# EAGLE library part 24LC (library Microchip-24LCxxx)
IC, I2C™ Serial EEPROM
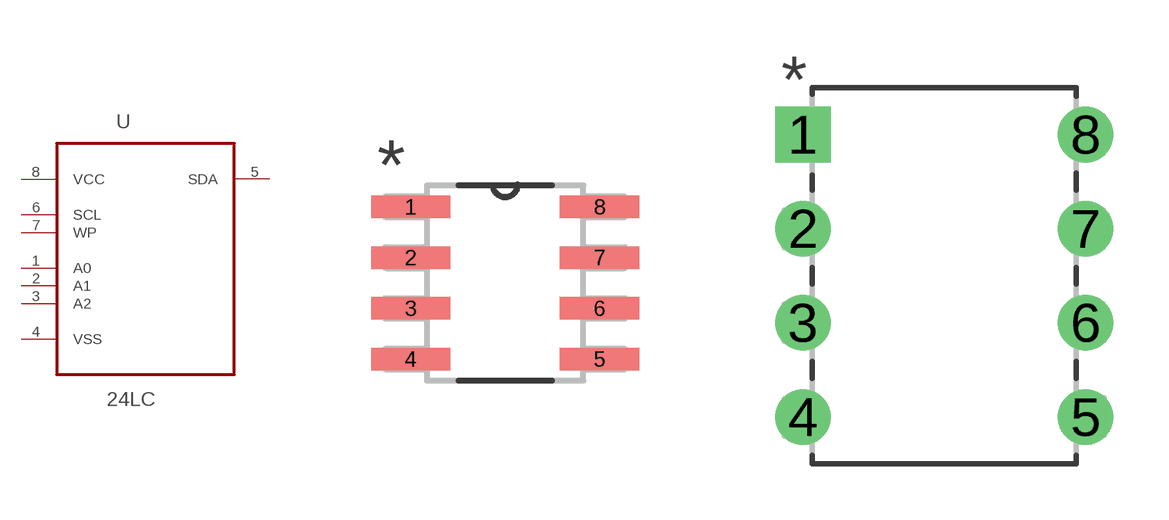
[diagram p2: symbol with the pads of SOIC127P600X175-8N; footprints SOIC127P600X175-8N, DIP254P762X432-8]

Designator prefix U

## 24LC01BT/SN (MPN: 24LC01BT/SN; OC_FARNELL: 1815864; OC_NEWARK: 12C1995; PACKAGE: SOIC-8; SUPPLIER: MICROCHIP), 24LC01BT-I/SN (MPN: 24LC01BT-I/SN; OC_FARNELL: Unknown; OC_NEWARK: 75M3686; PACKAGE: SOIC-8; SUPPLIER: MICROCHIP), 24LC02B-I/SN (MPN: 24LC02B-I/SNG; OC_FARNELL: 1818516; OC_NEWARK: 30H1482; PACKAGE: SOIC-8; SUPPLIER: MICROCHIP), 24LC02BT-I/SN (MPN: 24LC02BT-I/SN; OC_FARNELL: Unknown; OC_NEWARK: 75M3687; PACKAGE: SOIC-8; SUPPLIER: MICROCHIP), 24LC04BT-I/SN (MPN: 24LC04BT-I/SN; OC_FARNELL: Unknown; OC_NEWARK: 92C7116; PACKAGE: SOIC-8; SUPPLIER: MICROCHIP), 24LC08BT-I/SN (MPN: 24LC08BT-I/SN; OC_FARNELL: 1818714; OC_NEWARK: 92C7127; PACKAGE: SOIC-8; SUPPLIER: MICROCHIP), 24LC1025-I/SN (MPN: 24LC1025-I/SN; OC_FARNELL: Unknown; OC_NEWARK: 26R1324; PACKAGE: SOIC-8; SUPPLIER: MICROCHIP), 24LC1025T-I/SN (MPN: 24LC1025T-I/SN; OC_FARNELL: Unknown; OC_NEWARK: 86W6594; PACKAGE: SOIC-8; SUPPLIER: MICROCHIP), 24LC128-I/SN (MPN: 24LC128-I/SNG; OC_FARNELL: 1815924; OC_NEWARK: 30H1511; PACKAGE: SOIC-8; SUPPLIER: MICROCHIP), 24LC16BT-I/SN (MPN: 24LC16BT-I/SN; OC_FARNELL: Unknown; OC_NEWARK: 12C2013; PACKAGE: SOIC-8; SUPPLIER: MICROCHIP), 24LC32AT-I/SN (MPN: 24LC32AT-I/SN; OC_FARNELL: 1532127; OC_NEWARK: 92C7191; PACKAGE: SOIC-8; SUPPLIER: MICROCHIP), 24LC512-I/SN (MPN: 24LC512-I/SN; OC_FARNELL: 1801220; OC_NEWARK: 08R2186; PACKAGE: SOIC-8; SUPPLIER: MICROCHIP), 24LC64F-I/SN (MPN: 24LC64F-I/SN; OC_FARNELL: 1755856; OC_NEWARK: 08P0126; PACKAGE: SOIC-8; SUPPLIER: MICROCHIP)  [SOIC127P600X175-8N]
1  A0  in
2  A1  in
3  A2  in
4  VSS  pwr
5  SDA
6  SCL  in
7  WP  in
8  VCC  pwr

## 24LC16BH-I/P (MPN: 24LC16BH-I/P; OC_FARNELL: 1847846; OC_NEWARK: 98M5322; PACKAGE: DIP-8; SUPPLIER: MICROCHIP), 24LC64F-I/P (MPN: 24LC64F-I/P; OC_FARNELL: 1755855; OC_NEWARK: 08P0124; PACKAGE: DIP-8; SUPPLIER: MICROCHIP)  [DIP254P762X432-8]
Pads as for SOIC127P600X175-8N

## 24LC16B-I/ST (MPN: 24LC16B-I/ST; OC_FARNELL: 1261537; OC_NEWARK: 96K4076; PACKAGE: TSSOP-8; SUPPLIER: MICROCHIP), 24LC512-I/ST (MPN: 24LC512-I/ST; OC_FARNELL: 1801221; OC_NEWARK: 08R2187; PACKAGE: TSSOP-8; SUPPLIER: MICROCHIP), 24LC64X-I/ST (MPN: 24LC64X-I/ST; OC_FARNELL: Unknown; OC_NEWARK: 96K4081; PACKAGE: TSSOP-8; SUPPLIER: MICROCHIP)  [SOP65P640X120-8N]
Pads as for SOIC127P600X175-8N

## 24LC256-I/SM (MPN: 24LC256-I/SMG; OC_FARNELL: 1818659; OC_NEWARK: 68H9700; PACKAGE: SOIJ-8; SUPPLIER: MICROCHIP), 24LC512-I/SM (MPN: 24LC512-I/SMG; OC_FARNELL: 1815925; OC_NEWARK: 30H1539; PACKAGE: SOIJ-8; SUPPLIER: MICROCHIP), 24LC512T-I/SM (MPN: 24LC512T-I/SM; OC_FARNELL: Unknown; OC_NEWARK: 92C7211; PACKAGE: SOIJ-8; SUPPLIER: MICROCHIP)  [SOIC127P794X203-8N]
Pads as for SOIC127P600X175-8N

## 24LC256T-I/MS (MPN: 24LC256T-I/MS; OC_FARNELL: 1816069; OC_NEWARK: 92C7178; PACKAGE: MSOP-8; SUPPLIER: MICROCHIP)  [SOP65P490X110-8N]
Pads as for SOIC127P600X175-8N

## Footprint SOIC127P600X175-8N (pad centres in mm)
smd 1.981 x 0.559: 1 -2.362,1.905; 2 -2.362,0.635; 3 -2.362,-0.635; 4 -2.362,-1.905; 5 2.362,-1.905; 6 2.362,-0.635; 7 2.362,0.635; 8 2.362,1.905

## Footprint DIP254P762X432-8 (pad centres in mm)
drill 0.991 square: 1 -7.62,7.62
drill 0.991: 2 -7.62,5.08; 3 -7.62,2.54; 4 -7.62,0; 5 0,0; 6 0,2.54; 7 0,5.08; 8 0,7.62

## Footprint SOP65P640X120-8N (pad centres in mm)
smd 1.473 x 0.356: 1 -2.819,0.965; 2 -2.819,0.33; 3 -2.819,-0.33; 4 -2.819,-0.965; 5 2.819,-0.965; 6 2.819,-0.33; 7 2.819,0.33; 8 2.819,0.965

## Footprint SOIC127P794X203-8N (pad centres in mm)
smd 1.473 x 0.559: 1 -3.581,1.905; 2 -3.581,0.635; 3 -3.581,-0.635; 4 -3.581,-1.905; 5 3.581,-1.905; 6 3.581,-0.635; 7 3.581,0.635; 8 3.581,1.905

## Footprint SOP65P490X110-8N (pad centres in mm)
smd 1.499 x 0.457: 1 -2.057,0.965; 2 -2.057,0.33; 3 -2.057,-0.33; 4 -2.057,-0.965; 5 2.057,-0.965; 6 2.057,-0.33; 7 2.057,0.33; 8 2.057,0.965